# Altium schematic symbol library XC6806A42011-G.SchLib: 1 symbol
Pins are listed as number, name and electrical type; pins without a type are passive.

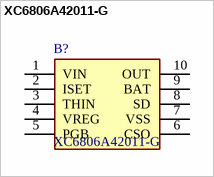
[diagram p0: symbol XC6806A42011-G]

## XC6806A42011-G
designator B?
Battery Charger Li-Ion/Li-Pol Single Cell 385mA 4.2V 10-Pin LGA-B01 T/R; Manufacturer_Name: Torex; Geometry.Height: 0.4mm; Farnell Part Number: *; Farnell Price/Stock: *; Manufacturer_Part_Number: XC6806A42011-G; Datasheet Link: https://www.torexsemi.com/file/xc6806/XC6806.pdf
footprint XC6806A42011G
pins: 1 VIN, 2 ISET, 3 THIN, 4 VREG, 5 PGB, 6 CSO, 7 VSS, 8 SD, 9 BAT, 10 OUT